# Altium footprint library misc_connectors.PcbLib: 23 footprints (part 2 of 2)
Each footprint in its own frame and in the unit in brackets; x right, y up, seen from the top. Pads: shape width x height; smd on the part's side, far side on the other; paste and mask are expansions set on the pad; w line width, h text height; cw(c..) or ccw(c..) is an arc to the next point about the centre after c.
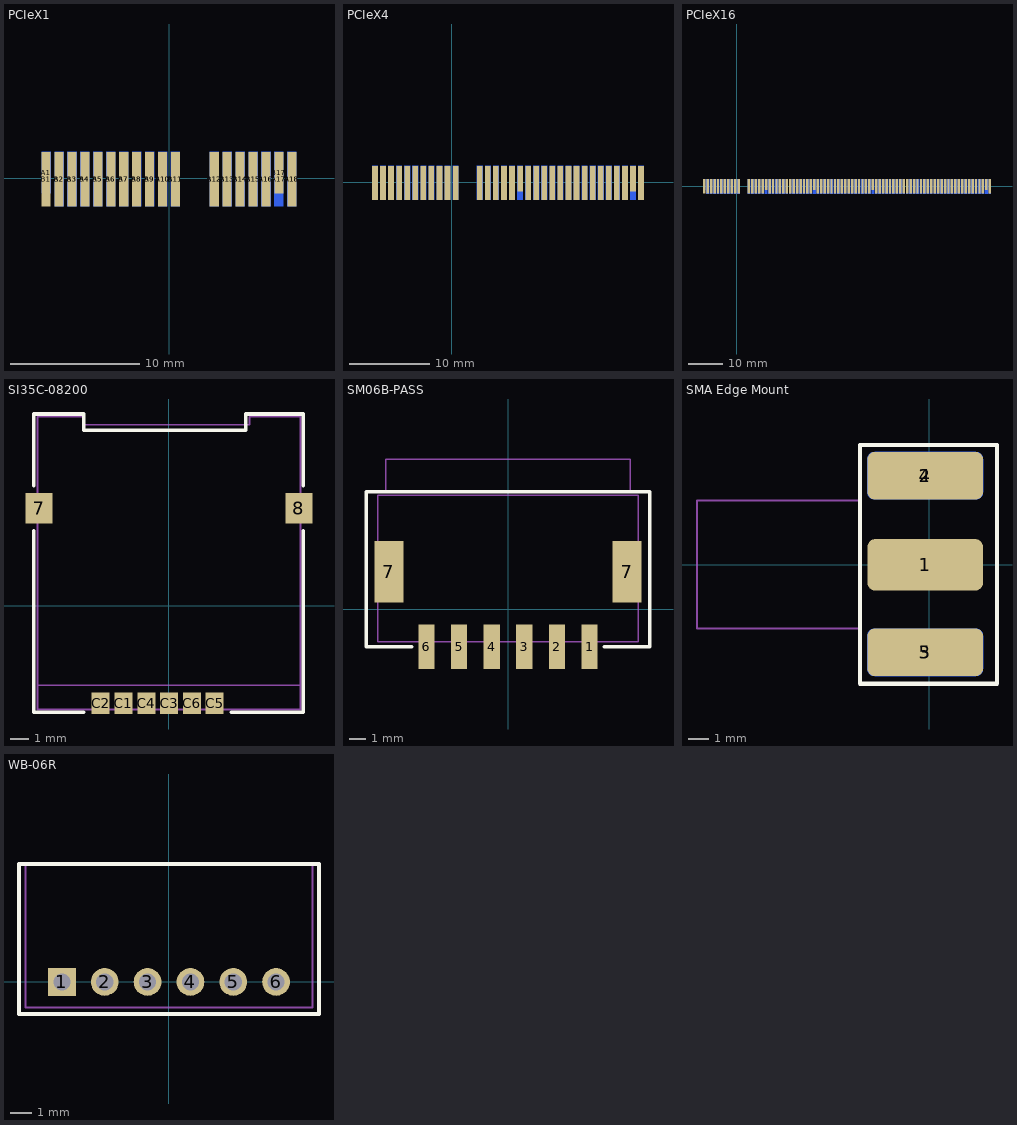
[diagram p1: the footprints below, top view; thin cyan lines are the x and y axes]

## PCIeX1 [mm] "Golden finger, PCIeX1, Dual, Opposite, Pitch 1mm, 36-Position"
pads (36):
  rect 0.7x3.2 smd far side paste-1: A1(-9.5,0.45)
  rect 0.7x4.2 smd far side paste-1: A2(-8.5,-0.05) A3(-7.5,-0.05) A4(-6.5,-0.05) A5(-5.5,-0.05) A6(-4.5,-0.05) A7(-3.5,-0.05) A8(-2.5,-0.05) A9(-1.5,-0.05) A10(-0.5,-0.05) A11(0.5,-0.05) A12(3.5,-0.05) A13(4.5,-0.05) A14(5.5,-0.05) A15(6.5,-0.05) A16(7.5,-0.05) A17(8.5,-0.05) A18(9.5,-0.05)
  rect 0.7x4.2 smd paste-1: B1(-9.5,-0.05) B2(-8.5,-0.05) B3(-7.5,-0.05) B4(-6.5,-0.05) B5(-5.5,-0.05) B6(-4.5,-0.05) B7(-3.5,-0.05) B8(-2.5,-0.05) B9(-1.5,-0.05) B10(-0.5,-0.05) B11(0.5,-0.05) B12(3.5,-0.05) B13(4.5,-0.05) B14(5.5,-0.05) B15(6.5,-0.05) B16(7.5,-0.05) B18(9.5,-0.05)
  rect 0.7x3.2 smd paste-1: B17(8.5,0.45)
Top Solder:
  rectangle: -10.4,-3.8 10.4,2.175
Bottom Solder:
  rectangle: -10.4,-3.8 10.4,2.175

## PCIeX4 [mm] "Golden finger, PCIeX4, Dual, Opposite, Pitch 1mm, 64-Position"
pads (64):
  rect 0.7x3.2 smd far side paste-1: A1(-9.5,0.45)
  rect 0.7x4.2 smd far side paste-1: A2(-8.5,-0.05) A3(-7.5,-0.05) A4(-6.5,-0.05) A5(-5.5,-0.05) A6(-4.5,-0.05) A7(-3.5,-0.05) A8(-2.5,-0.05) A9(-1.5,-0.05) A10(-0.5,-0.05) A11(0.5,-0.05) A12(3.5,-0.05) A13(4.5,-0.05) A14(5.5,-0.05) A15(6.5,-0.05) A16(7.5,-0.05) A17(8.5,-0.05) A18(9.5,-0.05) A19(10.5,-0.05) A20(11.5,-0.05) A21(12.5,-0.05) A22(13.5,-0.05) A23(14.5,-0.05) A24(15.5,-0.05) A25(16.5,-0.05) A26(17.5,-0.05) A27(18.5,-0.05) A28(19.5,-0.05) A29(20.5,-0.05) A30(21.5,-0.05) A31(22.5,-0.05) A32(23.5,-0.05)
  rect 0.7x4.2 smd paste-1: B1(-9.5,-0.05) B2(-8.5,-0.05) B3(-7.5,-0.05) B4(-6.5,-0.05) B5(-5.5,-0.05) B6(-4.5,-0.05) B7(-3.5,-0.05) B8(-2.5,-0.05) B9(-1.5,-0.05) B10(-0.5,-0.05) B11(0.5,-0.05) B12(3.5,-0.05) B13(4.5,-0.05) B14(5.5,-0.05) B15(6.5,-0.05) B16(7.5,-0.05) B18(9.5,-0.05) B19(10.5,-0.05) B20(11.5,-0.05) B21(12.5,-0.05) B22(13.5,-0.05) B23(14.5,-0.05) B24(15.5,-0.05) B25(16.5,-0.05) B26(17.5,-0.05) B27(18.5,-0.05) B28(19.5,-0.05) B29(20.5,-0.05) B30(21.5,-0.05) B32(23.5,-0.05)
  rect 0.7x3.2 smd paste-1: B17(8.5,0.45) B31(22.5,0.45)
Top Solder:
  rectangle: -10.4,-3.8 24.4,2.175
Bottom Solder:
  rectangle: -10.4,-3.8 24.4,2.175

## PCIeX16 [mm] "Golden finger, PCIeX16, Dual, Opposite, Pitch 1mm, 164-Position"
pads (164):
  rect 0.7x3.2 smd far side paste-1: A1(-9.5,0.5)
  rect 0.7x4.2 smd far side paste-1: A2(-8.5,0) A3(-7.5,0) A4(-6.5,0) A5(-5.5,0) A6(-4.5,0) A7(-3.5,0) A8(-2.5,0) A9(-1.5,0) A10(-0.5,0) A11(0.5,0) A12(3.5,0) A13(4.5,0) A14(5.5,0) A15(6.5,0) A16(7.5,0) A17(8.5,0) A18(9.5,0) A19(10.5,0) A20(11.5,0) A21(12.5,0) A22(13.5,0) A23(14.5,0) A24(15.5,0) A25(16.5,0) A26(17.5,0) A27(18.5,0) A28(19.5,0) A29(20.5,0) A30(21.5,0) A31(22.5,0) A32(23.5,0) A33(24.5,0) A34(25.5,0) A35(26.5,0) A36(27.5,0) A37(28.5,0) A38(29.5,0) A39(30.5,0) A40(31.5,0) A41(32.5,0) A42(33.5,0) A43(34.5,0) A44(35.5,0) A45(36.5,0) A46(37.5,0) A47(38.5,0) A48(39.5,0) A49(40.5,0) A50(41.5,0) A51(42.5,0) A52(43.5,0) A53(44.5,0) A54(45.5,0) A55(46.5,0) A56(47.5,0) A57(48.5,0) A58(49.5,0) A59(50.5,0) A60(51.5,0) A61(52.5,0) A62(53.5,0) A63(54.5,0) A64(55.5,0) A65(56.5,0) A66(57.5,0) A67(58.5,0) A68(59.5,0) A69(60.5,0) A70(61.5,0) A71(62.5,0) A72(63.5,0) A73(64.5,0) A74(65.5,0) A75(66.5,0) A76(67.5,0) A77(68.5,0) A78(69.5,0) A79(70.5,0) A80(71.5,0) A81(72.5,0) A82(73.5,0)
  rect 0.7x4.2 smd paste-1: B1(-9.5,0) B2(-8.5,0) B3(-7.5,0) B4(-6.5,0) B5(-5.5,0) B6(-4.5,0) B7(-3.5,0) B8(-2.5,0) B9(-1.5,0) B10(-0.5,0) B11(0.5,0) B12(3.5,0) B13(4.5,0) B14(5.5,0) B15(6.5,0) B16(7.5,0) B18(9.5,0) B19(10.5,0) B20(11.5,0) B21(12.5,0) B22(13.5,0) B23(14.5,0) B24(15.5,0) B25(16.5,0) B26(17.5,0) B27(18.5,0) B28(19.5,0) B29(20.5,0) B30(21.5,0) B32(23.5,0) B33(24.5,0) B34(25.5,0) B35(26.5,0) B36(27.5,0) B37(28.5,0) B38(29.5,0) B39(30.5,0) B40(31.5,0) B41(32.5,0) B42(33.5,0) B43(34.5,0) B44(35.5,0) B45(36.5,0) B46(37.5,0) B47(38.5,0) B49(40.5,0) B50(41.5,0) B51(42.5,0) B52(43.5,0) B53(44.5,0) B54(45.5,0) B55(46.5,0) B56(47.5,0) B57(48.5,0) B58(49.5,0) B59(50.5,0) B60(51.5,0) B61(52.5,0) B62(53.5,0) B63(54.5,0) B64(55.5,0) B65(56.5,0) B66(57.5,0) B67(58.5,0) B68(59.5,0) B69(60.5,0) B70(61.5,0) B71(62.5,0) B72(63.5,0) B73(64.5,0) B74(65.5,0) B75(66.5,0) B76(67.5,0) B77(68.5,0) B78(69.5,0) B79(70.5,0) B80(71.5,0) B82(73.5,0)
  rect 0.7x3.2 smd paste-1: B17(8.5,0.5) B31(22.5,0.5) B48(39.5,0.5) B81(72.5,0.5)
Top Solder:
  rectangle: -10.4,-3.75 74.4,2.225
Bottom Solder:
  rectangle: -10.4,-3.75 74.4,2.225

## SI35C-08200 [mm]
pads (8):
  rect 1.5x1.7 smd: 7(-7.225,5.425) 8(7.225,5.425)
  rect 1x1.2 smd: C1(-2.535,-5.425) C2(-3.805,-5.425) C3(0.005,-5.425) C4(-1.265,-5.425) C5(2.545,-5.425) C6(1.275,-5.425)
Top Overlay:
  lines w0.2: -7.535,4.175 -7.535,-5.925 -4.735,-5.925 ; -7.535,6.675 -7.535,10.675 -4.735,10.675 -4.735,9.775 4.265,9.775 4.265,10.675 7.465,10.675 7.465,6.675 ; 3.465,-5.925 7.465,-5.925 7.465,4.175
Top Assembly:
  lines w0.1: -7.325,-4.425 7.325,-4.425 ; -7.325,-5.775 -7.325,10.525 -4.775,10.525 -4.775,10.075 4.475,10.075 4.475,10.525 7.325,10.525 7.325,-5.775 -7.325,-5.775
  text ".Designator" at -4.998,-0.333 h1
3D body "SIM7200-6-0-18-00-A_revA1.STEP": height 1.75, standoff 0, extent -7.7,-5.75 7,10.6

## SM06B-PASS [mm]
pads (8):
  rect 1x2.7 smd: 1(5,-2.3) 2(3,-2.3) 3(1,-2.3) 4(-1,-2.3) 5(-3,-2.3) 6(-5,-2.3)
  rect 1.8x3.8 smd: 7(-7.3,2.3) 7(7.3,2.3)
Top Overlay:
  lines w0.2: -5.9,-2.3 -8.7,-2.3 -8.7,7.2 8.7,7.2 8.7,-2.3 5.9,-2.3
Top Assembly:
  lines w0.1: -7.5,7.2 -7.5,9.2 7.5,9.2 7.5,7.2 ; -8,-2 8,-2 8,7 -8,7 -8,-2
  text ".Designator" at -4.998,-0.333 h1

## SMA Edge Mount [mm]
pads (5):
  rrect30% 5.6x2.5 smd: 1(-0.2,0)
  rrect30% 5.6x2.3 smd: 2(-0.2,4.32) 3(-0.2,-4.23)
  rrect30% 5.6x2.3 smd far side: 4(-0.2,4.32) 5(-0.2,-4.23)
Top Overlay:
  lines w0.2: -3.35,-5.75 3.275,-5.75 3.275,5.8 -3.35,5.8 -3.35,-5.75
Top Assembly:
  lines w0.1: -11.25,-3.075 -3.35,-3.075 -3.35,-5.75 3.275,-5.75 3.275,5.8 -3.35,5.8 -3.35,3.125 -11.25,3.125 -11.25,-3.075
  text ".Designator" at -4.998,-0.333 h1
Top Courtyard (Mech15):
  lines w0.05: -11.25,-3.075 -11.25,3.125 -3.35,3.125 -3.35,5.8 3.275,5.8 3.275,-5.75 -3.35,-5.75 -3.35,-3.075 -11.25,-3.075
3D body "732511150.stp": height 4.96, standoff -2.96, extent -13.1,-4.762 1.175,4.763

## WB-06R [mm]
height 5
pads (6):
  rect 1.3x1.3 hole 0.8: 1(-5,0)
  round 1.3 hole 0.8: 2(-3,0) 3(-1,0) 4(1,0) 5(3,0) 6(5,0)
Top Overlay:
  lines w0.2: -7,-1.5 7,-1.5 7,5.5 -7,5.5 -7,-1.5
Top Assembly:
  lines w0.1: -6.7,-1.2 6.7,-1.2 6.7,5.5 -6.7,5.5 -6.7,-1.2
  text ".Designator" at -4.998,-0.333 h1
Top Courtyard (Mech15):
  lines w0.05: -7,-1.5 -7,5.5 7,5.5 7,-1.5 -7,-1.5